# Altium schematic symbol library led_common.SchLib: 1 symbol
Pins are listed as number, name and electrical type; pins without a type are passive.

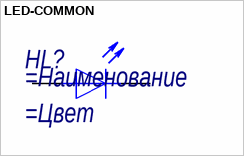
[diagram p0: symbol LED-COMMON]

## LED-COMMON
designator HL?
=Описание; Цвет: =Цвет
pins: 1, 2